# EAGLE library part LCD-NHD-0208AZ-3V3-EAGLE_LIGHT (library CEDTv79)
New Haven Display - 8x2 Character 3 Volt LCD with Backlight
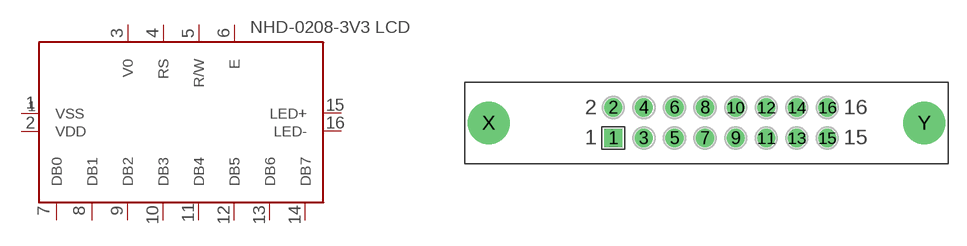
[diagram p39: symbol with the pads of LCD-NHD-0208-3V3_EAGLE_LIGHT; footprint LCD-NHD-0208-3V3_EAGLE_LIGHT]

Designator prefix -

## LCD-NHD-0208AZ-3V3-EAGLE_LIGHT  [LCD-NHD-0208-3V3_EAGLE_LIGHT]
1  VSS  pas
2  VDD  pas
3  V0  pas
4  RS  pas
5  R/W  pas
6  E  pas
7  DB0  pas
8  DB1  pas
9  DB2  pas
10  DB3  pas
11  DB4  pas
12  DB5  pas
13  DB6  pas
14  DB7  pas
15  LED+  pas
16  LED-  pas

## Footprint LCD-NHD-0208-3V3_EAGLE_LIGHT (pad centres in mm)
drill 1 square: 1 12.36,2.055
drill 1: 2 12.36,4.595; 3 14.9,2.055; 4 14.9,4.595; 5 17.44,2.055; 6 17.44,4.595; 7 19.98,2.055; 8 19.98,4.595; 9 22.52,2.055; 10 22.52,4.595; 11 25.06,2.055; 12 25.06,4.595; 13 27.6,2.055; 14 27.6,4.595; 15 30.14,2.055; 16 30.14,4.595
drill 2 pad 3.5: X 2,3.305; Y 38.2,3.305